# Altium footprint library PLUG.PcbLib: 2 footprints
Each footprint in its own frame and in the unit in brackets; x right, y up, seen from the top. Pads: shape width x height; smd on the part's side, far side on the other; paste and mask are expansions set on the pad; w line width, h text height; cw(c..) or ccw(c..) is an arc to the next point about the centre after c.
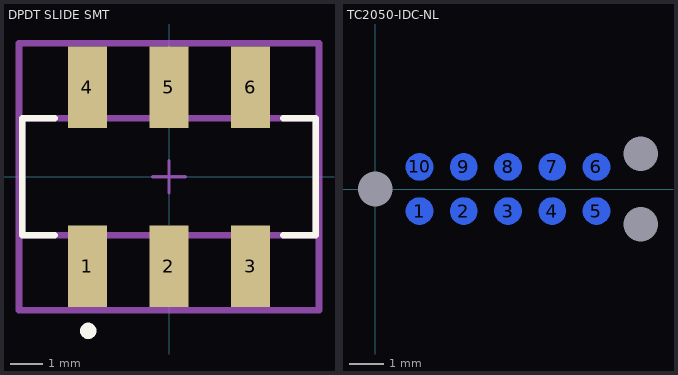
[diagram p0: the footprints below, top view; thin cyan lines are the x and y axes]

## DPDT SLIDE SMT [mm]
pads (6):
  rect 1.2x2.5 smd paste+0 mask+0: 1(-2.51,-2.753) 2(-0.01,-2.753) 3(2.49,-2.753) 4(-2.51,2.747) 5(-0.01,2.747) 6(2.49,2.747)
Top Overlay:
  circle w0.25: c-2.487,-4.728 r0.125
  lines w0.2: -3.51,-1.803 -4.51,-1.803 -4.51,1.797 -3.51,1.797 ; 3.49,-1.803 4.49,-1.803 4.49,1.797 3.49,1.797
Top 3D Body:
  lines w0.2: -4.51,-1.803 -4.51,1.797 4.49,1.797 4.49,-1.803 -4.51,-1.803
Top Courtyard:
  lines w0.2: -4.61,-4.103 -4.61,4.097 4.59,4.097 4.59,-4.103 -4.61,-4.103
Top Assembly:
  lines w0.2: -4.61,-4.103 -4.61,4.097 4.59,4.097 4.59,-4.103 -4.61,-4.103
  text ".Designator" at -0.01,-0.003 h2
Top Component Center:
  lines w0.1: -0.51,-0.003 0.49,-0.003 ; -0.01,-0.503 -0.01,0.497
3D body "CL-SB-22B-11.STEP": height 3.5, standoff 0, extent -4.275,-2.5 4.225,3.75

## TC2050-IDC-NL [mm]
pads (13):
  round 0 hole 0.991: 0(0,0) 0(7.62,-1.015) 0(7.62,1.015)
  round 0.787 smd far side: 1(1.27,-0.635) 2(2.54,-0.635) 3(3.81,-0.635) 4(5.08,-0.635) 5(6.35,-0.635) 6(6.35,0.635) 7(5.08,0.635) 8(3.81,0.635) 9(2.54,0.635) 10(1.27,0.635)